# Altium integrated library Capacitor - Aluminium TH.IntLib: 4591 symbols (part 28 of 68)
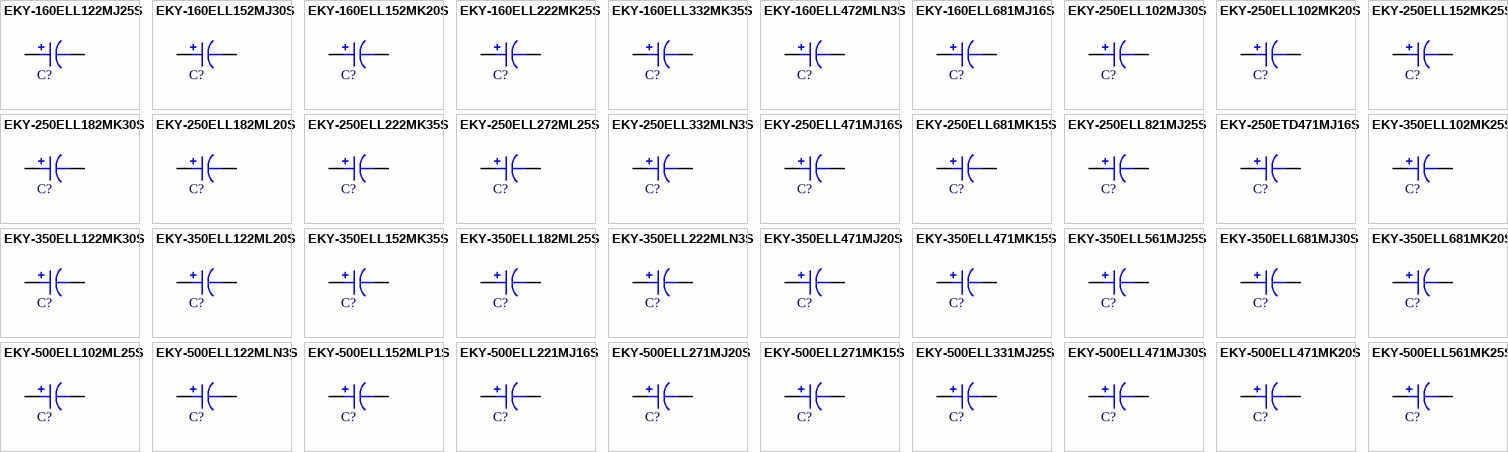
[diagram p141: symbols EKY-160ELL122MJ25S to EKY-500ELL561MK25S]

## EKY-350ELL471MJ20S
designator C?, comment 470uF  (value not drawn)
CAP ALUM 470UF 20% 35V RADIAL; Part Number: EKY-350ELL471MJ20S; Manufacturer: United Chemi-Con; TemperatureRange: -40C ~ 105C; Type: Polar; Ripple Current: 700mA @ 120Hz; Impedance: 46 mOhm; Value: 470uF; PartId: 25516; Supplier 1: Digi-Key; Supplier Part Number 1: 565-1576-ND; ComponentLink1Description: Datasheet; ComponentLink1URL: http://www.chemi-con.co.jp/cgi-bin/CAT_DB/SEARCH/cat_db_al.cgi?e=e&j=p&pdfname=ky; ComponentLink2Description: Digi-Key Listing; ComponentLink2URL: https://www.digikey.com/product-detail/en/united-chemi-con/EKY-350ELL471MJ20S/565-1576-ND/756092; Tolerance: 20%; Voltage: 35V; Price: 0.58; Device Package: Radial, Can, 10mm
footprint CAP AL TH D10 L5 H22
pins: 1, 2

## EKY-350ELL471MK15S
designator C?, comment 470uF  (value not drawn)
CAP ALUM 470UF 20% 35V RADIAL; Part Number: EKY-350ELL471MK15S; Manufacturer: United Chemi-Con; TemperatureRange: -40C ~ 105C; Type: Polar; Ripple Current: 725mA @ 120Hz; Impedance: 49 mOhm; Value: 470uF; PartId: 22715; Supplier 1: Digi-Key; Supplier Part Number 1: 565-1577-ND; ComponentLink1Description: Datasheet; ComponentLink1URL: http://www.chemi-con.co.jp/cgi-bin/CAT_DB/SEARCH/cat_db_al.cgi?e=e&j=p&pdfname=ky; ComponentLink2Description: Digi-Key Listing; ComponentLink2URL: https://www.digikey.com/product-detail/en/united-chemi-con/EKY-350ELL471MK15S/565-1577-ND/756093; Tolerance: 20%; Voltage: 35V; Price: 0; Device Package: Radial, Can, 12.5mm
footprint CAP AL TH D12.5 L5 H15
pins: 1, 2

## EKY-350ELL561MJ25S
designator C?, comment 560uF  (value not drawn)
CAP ALUM 560UF 20% 35V RADIAL; Part Number: EKY-350ELL561MJ25S; Manufacturer: United Chemi-Con; TemperatureRange: -40C ~ 105C; Type: Polar; Ripple Current: 825mA @ 120Hz; Impedance: 42 mOhm; Value: 560uF; PartId: 26080; Supplier 1: Digi-Key; Supplier Part Number 1: 565-1578-ND; ComponentLink1Description: Datasheet; ComponentLink1URL: http://www.chemi-con.co.jp/cgi-bin/CAT_DB/SEARCH/cat_db_al.cgi?e=e&j=p&pdfname=ky; ComponentLink2Description: Digi-Key Listing; ComponentLink2URL: https://www.digikey.com/product-detail/en/united-chemi-con/EKY-350ELL561MJ25S/565-1578-ND/756094; Tolerance: 20%; Voltage: 35V; Price: 0.71; Device Package: Radial, Can, 10mm
footprint CAP AL TH D10 L5 H30
pins: 1, 2

## EKY-350ELL681MJ30S
designator C?, comment 680uF  (value not drawn)
CAP ALUM 680UF 20% 35V RADIAL; Part Number: EKY-350ELL681MJ30S; Manufacturer: United Chemi-Con; TemperatureRange: -40C ~ 105C; Type: Polar; Ripple Current: 1.146A @ 120Hz; Impedance: 31 mOhm; Value: 680uF; PartId: 26049; Supplier 1: Digi-Key; Supplier Part Number 1: 565-1579-ND; ComponentLink1Description: Datasheet; ComponentLink1URL: http://www.chemi-con.co.jp/cgi-bin/CAT_DB/SEARCH/cat_db_al.cgi?e=e&j=p&pdfname=ky; ComponentLink2Description: Digi-Key Listing; ComponentLink2URL: https://www.digikey.com/product-detail/en/united-chemi-con/EKY-350ELL681MJ30S/565-1579-ND/756095; Tolerance: 20%; Voltage: 35V; Price: 0.63; Device Package: Radial, Can, 10mm
footprint CAP AL TH D10 L5 H30
pins: 1, 2

## EKY-350ELL681MK20S
designator C?, comment 680uF  (value not drawn)
CAP ALUM 680UF 20% 35V RADIAL; Part Number: EKY-350ELL681MK20S; Manufacturer: United Chemi-Con; TemperatureRange: -40C ~ 105C; Type: Polar; Ripple Current: 1.14A @ 120Hz; Impedance: 35 mOhm; Value: 680uF; PartId: 22901; Supplier 1: Digi-Key; Supplier Part Number 1: 565-1580-ND; ComponentLink1Description: Datasheet; ComponentLink1URL: http://www.chemi-con.co.jp/cgi-bin/CAT_DB/SEARCH/cat_db_al.cgi?e=e&j=p&pdfname=ky; ComponentLink2Description: Digi-Key Listing; ComponentLink2URL: https://www.digikey.com/product-detail/en/united-chemi-con/EKY-350ELL681MK20S/565-1580-ND/756096; Tolerance: 20%; Voltage: 35V; Price: 0; Device Package: Radial, Can, 12.5mm
footprint CAP AL TH D12.5 L5 H20
pins: 1, 2

## EKY-500ELL102ML25S
designator C?, comment 1000uF  (value not drawn)
CAP ALUM 1000UF 20% 50V RADIAL; Part Number: EKY-500ELL102ML25S; Manufacturer: United Chemi-Con; TemperatureRange: -40C ~ 105C; Type: Polar; Ripple Current: 1.533A @ 120Hz; Impedance: 25 mOhm; Value: 1000uF; PartId: 26580; Supplier 1: Digi-Key; Supplier Part Number 1: 565-1617-ND; ComponentLink1Description: Datasheet; ComponentLink1URL: http://www.chemi-con.co.jp/cgi-bin/CAT_DB/SEARCH/cat_db_al.cgi?e=e&j=p&pdfname=ky; ComponentLink2Description: Digi-Key Listing; ComponentLink2URL: https://www.digikey.com/product-detail/en/united-chemi-con/EKY-500ELL102ML25S/565-1617-ND/756133; Tolerance: 20%; Voltage: 50V; Price: 1.24; Device Package: Radial, Can, 16mm
footprint CAP AL TH D16 L7.5 H26.5
pins: 1, 2

## EKY-500ELL122MLN3S
designator C?, comment 1200uF  (value not drawn)
CAP ALUM 1200UF 20% 50V RADIAL; Part Number: EKY-500ELL122MLN3S; Manufacturer: United Chemi-Con; TemperatureRange: -40C ~ 105C; Type: Polar; Ripple Current: 1.806A @ 120Hz; Impedance: 22 mOhm; Value: 1200uF; PartId: 27022; Supplier 1: Digi-Key; Supplier Part Number 1: 565-1619-ND; ComponentLink1Description: Datasheet; ComponentLink1URL: http://www.chemi-con.co.jp/cgi-bin/CAT_DB/SEARCH/cat_db_al.cgi?e=e&j=p&pdfname=ky; ComponentLink2Description: Digi-Key Listing; ComponentLink2URL: https://www.digikey.com/product-detail/en/united-chemi-con/EKY-500ELL122MLN3S/565-1619-ND/756135; Tolerance: 20%; Voltage: 50V; Price: 1.47; Device Package: Radial, Can, 16mm
footprint CAP AL TH D16 L7.5 H33.5
pins: 1, 2

## EKY-500ELL152MLP1S
designator C?, comment 1500uF  (value not drawn)
CAP ALUM 1500UF 20% 50V RADIAL; Part Number: EKY-500ELL152MLP1S; Manufacturer: United Chemi-Con; TemperatureRange: -40C ~ 105C; Type: Polar; Ripple Current: 1.89A @ 120Hz; Impedance: 19 mOhm; Value: 1500uF; PartId: 27337; Supplier 1: Digi-Key; Supplier Part Number 1: 565-1621-ND; ComponentLink1Description: Datasheet; ComponentLink1URL: http://www.chemi-con.co.jp/cgi-bin/CAT_DB/SEARCH/cat_db_al.cgi?e=e&j=p&pdfname=ky; ComponentLink2Description: Digi-Key Listing; ComponentLink2URL: https://www.digikey.com/product-detail/en/united-chemi-con/EKY-500ELL152MLP1S/565-1621-ND/756137; Tolerance: 20%; Voltage: 50V; Price: 1.66; Device Package: Radial, Can, 16mm
footprint CAP AL TH D16 L7.5 H37
pins: 1, 2

## EKY-500ELL221MJ16S
designator C?, comment 220uF  (value not drawn)
CAP ALUM 220UF 20% 50V RADIAL; Part Number: EKY-500ELL221MJ16S; Manufacturer: United Chemi-Con; TemperatureRange: -40C ~ 105C; Type: Polar; Ripple Current: 525mA @ 120Hz; Impedance: 84 mOhm; Value: 220uF; PartId: 25215; Supplier 1: Digi-Key; Supplier Part Number 1: 565-1605-ND; ComponentLink1Description: Datasheet; ComponentLink1URL: http://www.chemi-con.co.jp/cgi-bin/CAT_DB/SEARCH/cat_db_al.cgi?e=e&j=p&pdfname=ky; ComponentLink2Description: Digi-Key Listing; ComponentLink2URL: https://www.digikey.com/product-detail/en/united-chemi-con/EKY-500ELL221MJ16S/565-1605-ND/756121; Tolerance: 20%; Voltage: 50V; Price: 0.53; Device Package: Radial, Can, 10mm
footprint CAP AL TH D10 L5 H17.5
pins: 1, 2

## EKY-500ELL271MJ20S
designator C?, comment 270uF  (value not drawn)
CAP ALUM 270UF 20% 50V RADIAL; Part Number: EKY-500ELL271MJ20S; Manufacturer: United Chemi-Con; TemperatureRange: -40C ~ 105C; Type: Polar; Ripple Current: 610mA @ 120Hz; Impedance: 60 mOhm; Value: 270uF; PartId: 25522; Supplier 1: Digi-Key; Supplier Part Number 1: 565-1606-ND; ComponentLink1Description: Datasheet; ComponentLink1URL: http://www.chemi-con.co.jp/cgi-bin/CAT_DB/SEARCH/cat_db_al.cgi?e=e&j=p&pdfname=ky; ComponentLink2Description: Digi-Key Listing; ComponentLink2URL: https://www.digikey.com/product-detail/en/united-chemi-con/EKY-500ELL271MJ20S/565-1606-ND/756122; Tolerance: 20%; Voltage: 50V; Price: 0.59; Device Package: Radial, Can, 10mm
footprint CAP AL TH D10 L5 H22
pins: 1, 2

## EKY-500ELL271MK15S
designator C?, comment 270uF  (value not drawn)
CAP ALUM 270UF 20% 50V RADIAL; Part Number: EKY-500ELL271MK15S; Manufacturer: United Chemi-Con; TemperatureRange: -40C ~ 105C; Type: Polar; Ripple Current: 630mA @ 120Hz; Impedance: 61 mOhm; Value: 270uF; PartId: 22716; Supplier 1: Digi-Key; Supplier Part Number 1: 565-1607-ND; ComponentLink1Description: Datasheet; ComponentLink1URL: http://www.chemi-con.co.jp/cgi-bin/CAT_DB/SEARCH/cat_db_al.cgi?e=e&j=p&pdfname=ky; ComponentLink2Description: Digi-Key Listing; ComponentLink2URL: https://www.digikey.com/product-detail/en/united-chemi-con/EKY-500ELL271MK15S/565-1607-ND/756123; Tolerance: 20%; Voltage: 50V; Price: 0; Device Package: Radial, Can, 12.5mm
footprint CAP AL TH D12.5 L5 H15
pins: 1, 2

## EKY-500ELL331MJ25S
designator C?, comment 330uF  (value not drawn)
CAP ALUM 330UF 20% 50V RADIAL; Part Number: EKY-500ELL331MJ25S; Manufacturer: United Chemi-Con; TemperatureRange: -40C ~ 105C; Type: Polar; Ripple Current: 720mA @ 120Hz; Impedance: 55 mOhm; Value: 330uF; PartId: 26078; Supplier 1: Digi-Key; Supplier Part Number 1: 565-1608-ND; ComponentLink1Description: Datasheet; ComponentLink1URL: http://www.chemi-con.co.jp/cgi-bin/CAT_DB/SEARCH/cat_db_al.cgi?e=e&j=p&pdfname=ky; ComponentLink2Description: Digi-Key Listing; ComponentLink2URL: https://www.digikey.com/product-detail/en/united-chemi-con/EKY-500ELL331MJ25S/565-1608-ND/756124; Tolerance: 20%; Voltage: 50V; Price: 0.71; Device Package: Radial, Can, 10mm
footprint CAP AL TH D10 L5 H30
pins: 1, 2

## EKY-500ELL471MJ30S
designator C?, comment 470uF  (value not drawn)
CAP ALUM 470UF 20% 50V RADIAL; Part Number: EKY-500ELL471MJ30S; Manufacturer: United Chemi-Con; TemperatureRange: -40C ~ 105C; Type: Polar; Ripple Current: 845mA @ 120Hz; Impedance: 43 mOhm; Value: 470uF; PartId: 26058; Supplier 1: Digi-Key; Supplier Part Number 1: 565-1609-ND; ComponentLink1Description: Datasheet; ComponentLink1URL: http://www.chemi-con.co.jp/cgi-bin/CAT_DB/SEARCH/cat_db_al.cgi?e=e&j=p&pdfname=ky; ComponentLink2Description: Digi-Key Listing; ComponentLink2URL: https://www.digikey.com/product-detail/en/united-chemi-con/EKY-500ELL471MJ30S/565-1609-ND/756125; Tolerance: 20%; Voltage: 50V; Price: 0.67; Device Package: Radial, Can, 10mm
footprint CAP AL TH D10 L5 H30
pins: 1, 2

## EKY-500ELL471MK20S
designator C?, comment 470uF  (value not drawn)
CAP ALUM 470UF 20% 50V RADIAL; Part Number: EKY-500ELL471MK20S; Manufacturer: United Chemi-Con; TemperatureRange: -40C ~ 105C; Type: Polar; Ripple Current: 830mA @ 120Hz; Impedance: 45 mOhm; Value: 470uF; PartId: 22903; Supplier 1: Digi-Key; Supplier Part Number 1: 565-1610-ND; ComponentLink1Description: Datasheet; ComponentLink1URL: http://www.chemi-con.co.jp/cgi-bin/CAT_DB/SEARCH/cat_db_al.cgi?e=e&j=p&pdfname=ky; ComponentLink2Description: Digi-Key Listing; ComponentLink2URL: https://www.digikey.com/product-detail/en/united-chemi-con/EKY-500ELL471MK20S/565-1610-ND/756126; Tolerance: 20%; Voltage: 50V; Price: 0; Device Package: Radial, Can, 12.5mm
footprint CAP AL TH D12.5 L5 H20
pins: 1, 2

## EKY-500ELL561MK25S
designator C?, comment 560uF  (value not drawn)
CAP ALUM 560UF 20% 50V RADIAL; Part Number: EKY-500ELL561MK25S; Manufacturer: United Chemi-Con; TemperatureRange: -40C ~ 105C; Type: Polar; Ripple Current: 975mA @ 120Hz; Impedance: 34 mOhm; Value: 560uF; PartId: 23561; Supplier 1: Digi-Key; Supplier Part Number 1: 565-1611-ND; ComponentLink1Description: Datasheet; ComponentLink1URL: http://www.chemi-con.co.jp/cgi-bin/CAT_DB/SEARCH/cat_db_al.cgi?e=e&j=p&pdfname=ky; ComponentLink2Description: Digi-Key Listing; ComponentLink2URL: https://www.digikey.com/product-detail/en/united-chemi-con/EKY-500ELL561MK25S/565-1611-ND/756127; Tolerance: 20%; Voltage: 50V; Price: 0.88; Device Package: Radial, Can, 12.5mm
footprint CAP AL TH D12.5 L5 H25
pins: 1, 2

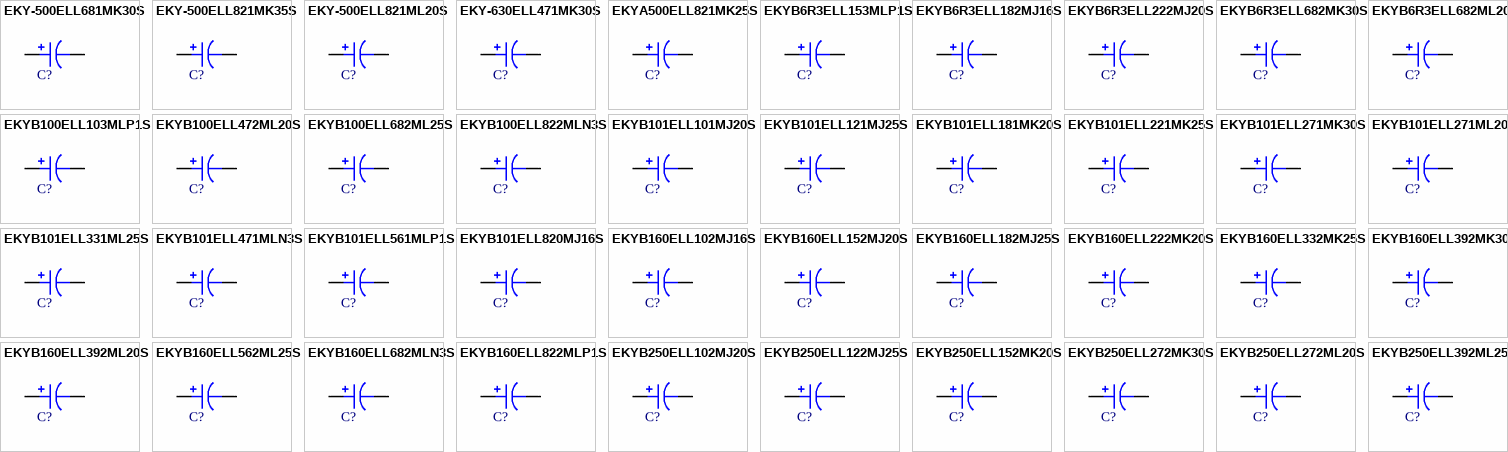
[diagram p45: symbols EKY-500ELL681MK30S to EKYB250ELL392ML25S]

## EKY-500ELL681MK30S
designator C?, comment 680uF  (value not drawn)
CAP ALUM 680UF 20% 50V RADIAL; Part Number: EKY-500ELL681MK30S; Manufacturer: United Chemi-Con; TemperatureRange: -40C ~ 105C; Type: Polar; Ripple Current: 1.386A @ 120Hz; Impedance: 30 mOhm; Value: 680uF; PartId: 24224; Supplier 1: Digi-Key; Supplier Part Number 1: 565-1613-ND; ComponentLink1Description: Datasheet; ComponentLink1URL: http://www.chemi-con.co.jp/cgi-bin/CAT_DB/SEARCH/cat_db_al.cgi?e=e&j=p&pdfname=ky; ComponentLink2Description: Digi-Key Listing; ComponentLink2URL: https://www.digikey.com/product-detail/en/united-chemi-con/EKY-500ELL681MK30S/565-1613-ND/756129; Tolerance: 20%; Voltage: 50V; Price: 0.97; Device Package: Radial, Can, 12.5mm
footprint CAP AL TH D12.5 L5 H35.5
pins: 1, 2

## EKY-500ELL821MK35S
designator C?, comment 820uF  (value not drawn)
CAP ALUM 820UF 20% 50V RADIAL; Part Number: EKY-500ELL821MK35S; Manufacturer: United Chemi-Con; TemperatureRange: -40C ~ 105C; Type: Polar; Ripple Current: 1.506A @ 120Hz; Impedance: 25 mOhm; Value: 820uF; PartId: 24227; Supplier 1: Digi-Key; Supplier Part Number 1: 565-1614-ND; ComponentLink1Description: Datasheet; ComponentLink1URL: http://www.chemi-con.co.jp/cgi-bin/CAT_DB/SEARCH/cat_db_al.cgi?e=e&j=p&pdfname=ky; ComponentLink2Description: Digi-Key Listing; ComponentLink2URL: https://www.digikey.com/product-detail/en/united-chemi-con/EKY-500ELL821MK35S/565-1614-ND/756130; Tolerance: 20%; Voltage: 50V; Price: 0.97; Device Package: Radial, Can, 12.5mm
footprint CAP AL TH D12.5 L5 H35.5
pins: 1, 2

## EKY-500ELL821ML20S
designator C?, comment 820uF  (value not drawn)
CAP ALUM 820UF 20% 50V RADIAL; Part Number: EKY-500ELL821ML20S; Manufacturer: United Chemi-Con; TemperatureRange: -40C ~ 105C; Type: Polar; Ripple Current: 1.326A @ 120Hz; Impedance: 34 mOhm; Value: 820uF; PartId: 26298; Supplier 1: Digi-Key; Supplier Part Number 1: 565-1615-ND; ComponentLink1Description: Datasheet; ComponentLink1URL: http://www.chemi-con.co.jp/cgi-bin/CAT_DB/SEARCH/cat_db_al.cgi?e=e&j=p&pdfname=ky; ComponentLink2Description: Digi-Key Listing; ComponentLink2URL: https://www.digikey.com/product-detail/en/united-chemi-con/EKY-500ELL821ML20S/565-1615-ND/756131; Tolerance: 20%; Voltage: 50V; Price: 1.12; Device Package: Radial, Can, 16mm
footprint CAP AL TH D16 L7.5 H20
pins: 1, 2

## EKY-630ELL471MK30S
designator C?, comment 470uF  (value not drawn)
CAP ALUM 470UF 20% 63V RADIAL; Part Number: EKY-630ELL471MK30S; Manufacturer: United Chemi-Con; TemperatureRange: -40C ~ 105C; Type: Polar; Ripple Current: 1.15A @ 120Hz; Impedance: 28 mOhm; Value: 470uF; PartId: 24229; Supplier 1: Digi-Key; Supplier Part Number 1: 565-4233-ND; ComponentLink1Description: Datasheet; ComponentLink1URL: http://www.chemi-con.co.jp/cgi-bin/CAT_DB/SEARCH/cat_db_al.cgi?e=e&j=p&pdfname=ky; ComponentLink2Description: Digi-Key Listing; ComponentLink2URL: https://www.digikey.com/product-detail/en/united-chemi-con/EKY-630ELL471MK30S/565-4233-ND/4001389; Tolerance: 20%; Voltage: 63V; Price: 0.97; Device Package: Radial, Can, 12.5mm
footprint CAP AL TH D12.5 L5 H35.5
pins: 1, 2

## EKYA500ELL821MK25S
designator C?, comment 820uF  (value not drawn)
CAP ALUM 820UF 20% 50V RADIAL; Part Number: EKYA500ELL821MK25S; Manufacturer: United Chemi-Con; TemperatureRange: -40C ~ 105C; Type: Polar; Ripple Current: 1.17A @ 120Hz; Impedance: 34 mOhm; Value: 820uF; PartId: 23730; Supplier 1: Digi-Key; Supplier Part Number 1: 565-3767-ND; ComponentLink1Description: Datasheet; ComponentLink1URL: http://www.chemi-con.co.jp/cgi-bin/CAT_DB/SEARCH/cat_db_al.cgi?e=e&j=p&pdfname=kya; ComponentLink2Description: Digi-Key Listing; ComponentLink2URL: https://www.digikey.com/product-detail/en/united-chemi-con/EKYA500ELL821MK25S/565-3767-ND/4726036; Tolerance: 20%; Voltage: 50V; Price: 1.42; Device Package: Radial, Can, 12.5mm
footprint CAP AL TH D12.5 L5 H26.5
pins: 1, 2

## EKYB6R3ELL153MLP1S
designator C?, comment 15000uF  (value not drawn)
CAP ALUM 15000UF 20% 6.3V RADIAL; Part Number: EKYB6R3ELL153MLP1S; Manufacturer: United Chemi-Con; TemperatureRange: -40C ~ 105C; Type: Polar; Ripple Current: 3.468A @ 120Hz; Impedance: 14 mOhm; Value: 15000uF; PartId: 27381; Supplier 1: Digi-Key; Supplier Part Number 1: 565-3846-ND; ComponentLink1Description: Datasheet; ComponentLink1URL: http://www.chemi-con.co.jp/cgi-bin/CAT_DB/SEARCH/cat_db_al.cgi?e=e&j=p&pdfname=kyb; ComponentLink2Description: Digi-Key Listing; ComponentLink2URL: https://www.digikey.com/product-detail/en/united-chemi-con/EKYB6R3ELL153MLP1S/565-3846-ND/4843656; Tolerance: 20%; Voltage: 6.3V; Price: 1.83; Device Package: Radial, Can, 16mm
footprint CAP AL TH D16 L7.5 H37
pins: 1, 2

## EKYB6R3ELL182MJ16S
designator C?, comment 1800uF  (value not drawn)
CAP ALUM 1800UF 20% 6.3V RADIAL; Part Number: EKYB6R3ELL182MJ16S; Manufacturer: United Chemi-Con; TemperatureRange: -40C ~ 105C; Type: Polar; Ripple Current: 840mA @ 120Hz; Impedance: 49 mOhm; Value: 1800uF; PartId: 25297; Supplier 1: Digi-Key; Supplier Part Number 1: 565-3837-ND; ComponentLink1Description: Datasheet; ComponentLink1URL: http://www.chemi-con.co.jp/cgi-bin/CAT_DB/SEARCH/cat_db_al.cgi?e=e&j=p&pdfname=kyb; ComponentLink2Description: Digi-Key Listing; ComponentLink2URL: https://www.digikey.com/product-detail/en/united-chemi-con/EKYB6R3ELL182MJ16S/565-3837-ND/4843647; Tolerance: 20%; Voltage: 6.3V; Price: 0.63; Device Package: Radial, Can, 10mm
footprint CAP AL TH D10 L5 H17.5
pins: 1, 2

## EKYB6R3ELL222MJ20S
designator C?, comment 2200uF  (value not drawn)
CAP ALUM 2200UF 20% 6.3V RADIAL; Part Number: EKYB6R3ELL222MJ20S; Manufacturer: United Chemi-Con; TemperatureRange: -40C ~ 105C; Type: Polar; Ripple Current: 1.2375A @ 120Hz; Impedance: 37 mOhm; Value: 2200uF; PartId: 25615; Supplier 1: Digi-Key; Supplier Part Number 1: 565-3838-ND; ComponentLink1Description: Datasheet; ComponentLink1URL: http://www.chemi-con.co.jp/cgi-bin/CAT_DB/SEARCH/cat_db_al.cgi?e=e&j=p&pdfname=kyb; ComponentLink2Description: Digi-Key Listing; ComponentLink2URL: https://www.digikey.com/product-detail/en/united-chemi-con/EKYB6R3ELL222MJ20S/565-3838-ND/4843648; Tolerance: 20%; Voltage: 6.3V; Price: 0.7; Device Package: Radial, Can, 10mm
footprint CAP AL TH D10 L5 H22
pins: 1, 2

## EKYB6R3ELL682MK30S
designator C?, comment 6800uF  (value not drawn)
CAP ALUM 6800UF 20% 6.3V RADIAL; Part Number: EKYB6R3ELL682MK30S; Manufacturer: United Chemi-Con; TemperatureRange: -40C ~ 105C; Type: Polar; Ripple Current: 2.431A @ 120Hz; Impedance: 21 mOhm; Value: 6800uF; PartId: 24254; Supplier 1: Digi-Key; Supplier Part Number 1: 565-3843-ND; ComponentLink1Description: Datasheet; ComponentLink1URL: http://www.chemi-con.co.jp/cgi-bin/CAT_DB/SEARCH/cat_db_al.cgi?e=e&j=p&pdfname=kyb; ComponentLink2Description: Digi-Key Listing; ComponentLink2URL: https://www.digikey.com/product-detail/en/united-chemi-con/EKYB6R3ELL682MK30S/565-3843-ND/4843653; Tolerance: 20%; Voltage: 6.3V; Price: 1.03; Device Package: Radial, Can, 12.5mm
footprint CAP AL TH D12.5 L5 H35.5
pins: 1, 2

## EKYB6R3ELL682ML20S
designator C?, comment 6800uF  (value not drawn)
CAP ALUM 6800UF 20% 6.3V RADIAL; Part Number: EKYB6R3ELL682ML20S; Manufacturer: United Chemi-Con; TemperatureRange: -40C ~ 105C; Type: Polar; Ripple Current: 2.2185A @ 120Hz; Impedance: 25 mOhm; Value: 6800uF; PartId: 26420; Supplier 1: Digi-Key; Supplier Part Number 1: 565-3844-ND; ComponentLink1Description: Datasheet; ComponentLink1URL: http://www.chemi-con.co.jp/cgi-bin/CAT_DB/SEARCH/cat_db_al.cgi?e=e&j=p&pdfname=kyb; ComponentLink2Description: Digi-Key Listing; ComponentLink2URL: https://www.digikey.com/product-detail/en/united-chemi-con/EKYB6R3ELL682ML20S/565-3844-ND/4843654; Tolerance: 20%; Voltage: 6.3V; Price: 1.24; Device Package: Radial, Can, 16mm
footprint CAP AL TH D16 L7.5 H22
pins: 1, 2

## EKYB100ELL103MLP1S
designator C?, comment 10000uF  (value not drawn)
CAP ALUM 10000UF 20% 10V RADIAL; Part Number: EKYB100ELL103MLP1S; Manufacturer: United Chemi-Con; TemperatureRange: -40C ~ 105C; Type: Polar; Ripple Current: 3.468A @ 120Hz; Impedance: 14 mOhm; Value: 10000uF; PartId: 27368; Supplier 1: Digi-Key; Supplier Part Number 1: 565-3855-ND; ComponentLink1Description: Datasheet; ComponentLink1URL: http://www.chemi-con.co.jp/cgi-bin/CAT_DB/SEARCH/cat_db_al.cgi?e=e&j=p&pdfname=kyb; ComponentLink2Description: Digi-Key Listing; ComponentLink2URL: https://www.digikey.com/product-detail/en/united-chemi-con/EKYB100ELL103MLP1S/565-3855-ND/4843665; Tolerance: 20%; Voltage: 10V; Price: 1.79; Device Package: Radial, Can, 16mm
footprint CAP AL TH D16 L7.5 H37
pins: 1, 2

## EKYB100ELL472ML20S
designator C?, comment 4700uF  (value not drawn)
CAP ALUM 4700UF 20% 10V RADIAL; Part Number: EKYB100ELL472ML20S; Manufacturer: United Chemi-Con; TemperatureRange: -40C ~ 105C; Type: Polar; Ripple Current: 2.2185A @ 120Hz; Impedance: 25 mOhm; Value: 4700uF; PartId: 26424; Supplier 1: Digi-Key; Supplier Part Number 1: 565-3851-ND; ComponentLink1Description: Datasheet; ComponentLink1URL: http://www.chemi-con.co.jp/cgi-bin/CAT_DB/SEARCH/cat_db_al.cgi?e=e&j=p&pdfname=kyb; ComponentLink2Description: Digi-Key Listing; ComponentLink2URL: https://www.digikey.com/product-detail/en/united-chemi-con/EKYB100ELL472ML20S/565-3851-ND/4843661; Tolerance: 20%; Voltage: 10V; Price: 1.25; Device Package: Radial, Can, 16mm
footprint CAP AL TH D16 L7.5 H22
pins: 1, 2

## EKYB100ELL682ML25S
designator C?, comment 6800uF  (value not drawn)
CAP ALUM 6800UF 20% 10V RADIAL; Part Number: EKYB100ELL682ML25S; Manufacturer: United Chemi-Con; TemperatureRange: -40C ~ 105C; Type: Polar; Ripple Current: 2.669A @ 100kHz; Impedance: 20 mOhm; Value: 6800uF; PartId: 26643; Supplier 1: Digi-Key; Supplier Part Number 1: 565-3852-ND; ComponentLink1Description: Datasheet; ComponentLink1URL: http://www.chemi-con.co.jp/cgi-bin/CAT_DB/SEARCH/cat_db_al.cgi?e=e&j=p&pdfname=kyb; ComponentLink2Description: Digi-Key Listing; ComponentLink2URL: https://www.digikey.com/product-detail/en/united-chemi-con/EKYB100ELL682ML25S/565-3852-ND/4843662; Tolerance: 20%; Voltage: 10V; Price: 1.52; Device Package: Radial, Can, 16mm
footprint CAP AL TH D16 L7.5 H26.5
pins: 1, 2

## EKYB100ELL822MLN3S
designator C?, comment 8200uF  (value not drawn)
CAP ALUM 8200UF 20% 10V RADIAL; Part Number: EKYB100ELL822MLN3S; Manufacturer: United Chemi-Con; TemperatureRange: -40C ~ 105C; Type: Polar; Ripple Current: 3.0685A @ 120Hz; Impedance: 16 mOhm; Value: 8200uF; PartId: 27152; Supplier 1: Digi-Key; Supplier Part Number 1: 565-3853-ND; ComponentLink1Description: Datasheet; ComponentLink1URL: http://www.chemi-con.co.jp/cgi-bin/CAT_DB/SEARCH/cat_db_al.cgi?e=e&j=p&pdfname=kyb; ComponentLink2Description: Digi-Key Listing; ComponentLink2URL: https://www.digikey.com/product-detail/en/united-chemi-con/EKYB100ELL822MLN3S/565-3853-ND/4843663; Tolerance: 20%; Voltage: 10V; Price: 1.85; Device Package: Radial, Can, 16mm
footprint CAP AL TH D16 L7.5 H33.5
pins: 1, 2

## EKYB101ELL101MJ20S
designator C?, comment 100uF  (value not drawn)
CAP ALUM 100UF 20% 100V RADIAL; Part Number: EKYB101ELL101MJ20S; Manufacturer: United Chemi-Con; TemperatureRange: -40C ~ 105C; Type: Polar; Ripple Current: 416mA @ 120Hz; Impedance: 75 mOhm; Value: 100uF; PartId: 25588; Supplier 1: Digi-Key; Supplier Part Number 1: 565-4013-ND; ComponentLink1Description: Datasheet; ComponentLink1URL: http://www.chemi-con.co.jp/cgi-bin/CAT_DB/SEARCH/cat_db_al.cgi?e=e&j=p&pdfname=kyb; ComponentLink2Description: Digi-Key Listing; ComponentLink2URL: https://www.digikey.com/product-detail/en/united-chemi-con/EKYB101ELL101MJ20S/565-4013-ND/4843823; Tolerance: 20%; Voltage: 100V; Price: 0.68; Device Package: Radial, Can, 10mm
footprint CAP AL TH D10 L5 H22
pins: 1, 2

## EKYB101ELL121MJ25S
designator C?, comment 120uF  (value not drawn)
CAP ALUM 120UF 20% 100V RADIAL; Part Number: EKYB101ELL121MJ25S; Manufacturer: United Chemi-Con; TemperatureRange: -40C ~ 105C; Type: Polar; Ripple Current: 468mA @ 120Hz; Impedance: 60 mOhm; Value: 120uF; PartId: 26072; Supplier 1: Digi-Key; Supplier Part Number 1: 565-4014-ND; ComponentLink1Description: Datasheet; ComponentLink1URL: http://www.chemi-con.co.jp/cgi-bin/CAT_DB/SEARCH/cat_db_al.cgi?e=e&j=p&pdfname=kyb; ComponentLink2Description: Digi-Key Listing; ComponentLink2URL: https://www.digikey.com/product-detail/en/united-chemi-con/EKYB101ELL121MJ25S/565-4014-ND/4843824; Tolerance: 20%; Voltage: 100V; Price: 0.7; Device Package: Radial, Can, 10mm
footprint CAP AL TH D10 L5 H30
pins: 1, 2

## EKYB101ELL181MK20S
designator C?, comment 180uF  (value not drawn)
CAP ALUM 180UF 20% 100V RADIAL; Part Number: EKYB101ELL181MK20S; Manufacturer: United Chemi-Con; TemperatureRange: -40C ~ 105C; Type: Polar; Ripple Current: 572mA @ 120Hz; Impedance: 48 mOhm; Value: 180uF; PartId: 22998; Supplier 1: Digi-Key; Supplier Part Number 1: 565-4016-ND; ComponentLink1Description: Datasheet; ComponentLink1URL: http://www.chemi-con.co.jp/cgi-bin/CAT_DB/SEARCH/cat_db_al.cgi?e=e&j=p&pdfname=kyb; ComponentLink2Description: Digi-Key Listing; ComponentLink2URL: https://www.digikey.com/product-detail/en/united-chemi-con/EKYB101ELL181MK20S/565-4016-ND/4843826; Tolerance: 20%; Voltage: 100V; Price: 0; Device Package: Radial, Can, 12.5mm
footprint CAP AL TH D12.5 L5 H21.5
pins: 1, 2

## EKYB101ELL221MK25S
designator C?, comment 220uF  (value not drawn)
CAP ALUM 220UF 20% 100V RADIAL; Part Number: EKYB101ELL221MK25S; Manufacturer: United Chemi-Con; TemperatureRange: -40C ~ 105C; Type: Polar; Ripple Current: 810mA @ 120Hz; Impedance: 39 mOhm; Value: 220uF; PartId: 24277; Supplier 1: Digi-Key; Supplier Part Number 1: 565-4017-ND; ComponentLink1Description: Datasheet; ComponentLink1URL: http://www.chemi-con.co.jp/cgi-bin/CAT_DB/SEARCH/cat_db_al.cgi?e=e&j=p&pdfname=kyb; ComponentLink2Description: Digi-Key Listing; ComponentLink2URL: https://www.digikey.com/product-detail/en/united-chemi-con/EKYB101ELL221MK25S/565-4017-ND/4843827; Tolerance: 20%; Voltage: 100V; Price: 1.08; Device Package: Radial, Can, 12.5mm
footprint CAP AL TH D12.5 L5 H35.5
pins: 1, 2

## EKYB101ELL271MK30S
designator C?, comment 270uF  (value not drawn)
CAP ALUM 270UF 20% 100V RADIAL; Part Number: EKYB101ELL271MK30S; Manufacturer: United Chemi-Con; TemperatureRange: -40C ~ 105C; Type: Polar; Ripple Current: 975mA @ 120Hz; Impedance: 33 mOhm; Value: 270uF; PartId: 24290; Supplier 1: Digi-Key; Supplier Part Number 1: 565-4018-ND; ComponentLink1Description: Datasheet; ComponentLink1URL: http://www.chemi-con.co.jp/cgi-bin/CAT_DB/SEARCH/cat_db_al.cgi?e=e&j=p&pdfname=kyb; ComponentLink2Description: Digi-Key Listing; ComponentLink2URL: https://www.digikey.com/product-detail/en/united-chemi-con/EKYB101ELL271MK30S/565-4018-ND/4843828; Tolerance: 20%; Voltage: 100V; Price: 1.12; Device Package: Radial, Can, 12.5mm
footprint CAP AL TH D12.5 L5 H35.5
pins: 1, 2

## EKYB101ELL271ML20S
designator C?, comment 270uF  (value not drawn)
CAP ALUM 270UF 20% 100V RADIAL; Part Number: EKYB101ELL271ML20S; Manufacturer: United Chemi-Con; TemperatureRange: -40C ~ 105C; Type: Polar; Ripple Current: 875mA @ 120Hz; Impedance: 36 mOhm; Value: 270uF; PartId: 26432; Supplier 1: Digi-Key; Supplier Part Number 1: 565-4019-ND; ComponentLink1Description: Datasheet; ComponentLink1URL: http://www.chemi-con.co.jp/cgi-bin/CAT_DB/SEARCH/cat_db_al.cgi?e=e&j=p&pdfname=kyb; ComponentLink2Description: Digi-Key Listing; ComponentLink2URL: https://www.digikey.com/product-detail/en/united-chemi-con/EKYB101ELL271ML20S/565-4019-ND/4843829; Tolerance: 20%; Voltage: 100V; Price: 1.32; Device Package: Radial, Can, 16mm
footprint CAP AL TH D16 L7.5 H22
pins: 1, 2

## EKYB101ELL331ML25S
designator C?, comment 330uF  (value not drawn)
CAP ALUM 330UF 20% 100V RADIAL; Part Number: EKYB101ELL331ML25S; Manufacturer: United Chemi-Con; TemperatureRange: -40C ~ 105C; Type: Polar; Ripple Current: 1.125A @ 120Hz; Impedance: 28 mOhm; Value: 330uF; PartId: 26649; Supplier 1: Digi-Key; Supplier Part Number 1: 565-4020-ND; ComponentLink1Description: Datasheet; ComponentLink1URL: http://www.chemi-con.co.jp/cgi-bin/CAT_DB/SEARCH/cat_db_al.cgi?e=e&j=p&pdfname=kyb; ComponentLink2Description: Digi-Key Listing; ComponentLink2URL: https://www.digikey.com/product-detail/en/united-chemi-con/EKYB101ELL331ML25S/565-4020-ND/4843830; Tolerance: 20%; Voltage: 100V; Price: 1.55; Device Package: Radial, Can, 16mm
footprint CAP AL TH D16 L7.5 H26.5
pins: 1, 2

## EKYB101ELL471MLN3S
designator C?, comment 470uF  (value not drawn)
CAP ALUM 470UF 20% 100V RADIAL; Part Number: EKYB101ELL471MLN3S; Manufacturer: United Chemi-Con; TemperatureRange: -40C ~ 105C; Type: Polar; Ripple Current: 1.2A @ 120Hz; Impedance: 22 mOhm; Value: 470uF; PartId: 27165; Supplier 1: Digi-Key; Supplier Part Number 1: 565-4024-ND; ComponentLink1Description: Datasheet; ComponentLink1URL: http://www.chemi-con.co.jp/cgi-bin/CAT_DB/SEARCH/cat_db_al.cgi?e=e&j=p&pdfname=kyb; ComponentLink2Description: Digi-Key Listing; ComponentLink2URL: https://www.digikey.com/product-detail/en/united-chemi-con/EKYB101ELL471MLN3S/565-4024-ND/4843834; Tolerance: 20%; Voltage: 100V; Price: 1.88; Device Package: Radial, Can, 16mm
footprint CAP AL TH D16 L7.5 H33.5
pins: 1, 2

## EKYB101ELL561MLP1S
designator C?, comment 560uF  (value not drawn)
CAP ALUM 560UF 20% 100V RADIAL; Part Number: EKYB101ELL561MLP1S; Manufacturer: United Chemi-Con; TemperatureRange: -40C ~ 105C; Type: Polar; Ripple Current: 1.3A @ 120Hz; Impedance: 20 mOhm; Value: 560uF; PartId: 27387; Supplier 1: Digi-Key; Supplier Part Number 1: 565-4025-ND; ComponentLink1Description: Datasheet; ComponentLink1URL: http://www.chemi-con.co.jp/cgi-bin/CAT_DB/SEARCH/cat_db_al.cgi?e=e&j=p&pdfname=kyb; ComponentLink2Description: Digi-Key Listing; ComponentLink2URL: https://www.digikey.com/product-detail/en/united-chemi-con/EKYB101ELL561MLP1S/565-4025-ND/4843835; Tolerance: 20%; Voltage: 100V; Price: 1.9; Device Package: Radial, Can, 16mm
footprint CAP AL TH D16 L7.5 H37
pins: 1, 2

## EKYB101ELL820MJ16S
designator C?, comment 82uF  (value not drawn)
CAP ALUM 82UF 20% 100V RADIAL; Part Number: EKYB101ELL820MJ16S; Manufacturer: United Chemi-Con; TemperatureRange: -40C ~ 105C; Type: Polar; Ripple Current: 312mA @ 120Hz; Impedance: 100 mOhm; Value: 82uF; PartId: 25295; Supplier 1: Digi-Key; Supplier Part Number 1: 565-4012-ND; ComponentLink1Description: Datasheet; ComponentLink1URL: http://www.chemi-con.co.jp/cgi-bin/CAT_DB/SEARCH/cat_db_al.cgi?e=e&j=p&pdfname=kyb; ComponentLink2Description: Digi-Key Listing; ComponentLink2URL: https://www.digikey.com/product-detail/en/united-chemi-con/EKYB101ELL820MJ16S/565-4012-ND/4843822; Tolerance: 20%; Voltage: 100V; Price: 0.63; Device Package: Radial, Can, 10mm
footprint CAP AL TH D10 L5 H17.5
pins: 1, 2

## EKYB160ELL102MJ16S
designator C?, comment 1000uF  (value not drawn)
CAP ALUM 1000UF 20% 16V RADIAL; Part Number: EKYB160ELL102MJ16S; Manufacturer: United Chemi-Con; TemperatureRange: -40C ~ 105C; Type: Polar; Ripple Current: 840mA @ 120Hz; Impedance: 49 mOhm; Value: 1000uF; PartId: 25302; Supplier 1: Digi-Key; Supplier Part Number 1: 565-3866-ND; ComponentLink1Description: Datasheet; ComponentLink1URL: http://www.chemi-con.co.jp/cgi-bin/CAT_DB/SEARCH/cat_db_al.cgi?e=e&j=p&pdfname=kyb; ComponentLink2Description: Digi-Key Listing; ComponentLink2URL: https://www.digikey.com/product-detail/en/united-chemi-con/EKYB160ELL102MJ16S/565-3866-ND/4843676; Tolerance: 20%; Voltage: 16V; Price: 0.64; Device Package: Radial, Can, 10mm
footprint CAP AL TH D10 L5 H17.5
pins: 1, 2

## EKYB160ELL152MJ20S
designator C?, comment 1500uF  (value not drawn)
CAP ALUM 1500UF 20% 16V RADIAL; Part Number: EKYB160ELL152MJ20S; Manufacturer: United Chemi-Con; TemperatureRange: -40C ~ 105C; Type: Polar; Ripple Current: 990mA @ 120Hz; Impedance: 37 mOhm; Value: 1500uF; PartId: 25636; Supplier 1: Digi-Key; Supplier Part Number 1: 565-3867-ND; ComponentLink1Description: Datasheet; ComponentLink1URL: http://www.chemi-con.co.jp/cgi-bin/CAT_DB/SEARCH/cat_db_al.cgi?e=e&j=p&pdfname=kyb; ComponentLink2Description: Digi-Key Listing; ComponentLink2URL: https://www.digikey.com/product-detail/en/united-chemi-con/EKYB160ELL152MJ20S/565-3867-ND/4843677; Tolerance: 20%; Voltage: 16V; Price: 0.73; Device Package: Radial, Can, 10mm
footprint CAP AL TH D10 L5 H22
pins: 1, 2

## EKYB160ELL182MJ25S
designator C?, comment 1800uF  (value not drawn)
CAP ALUM 1800UF 20% 16V RADIAL; Part Number: EKYB160ELL182MJ25S; Manufacturer: United Chemi-Con; TemperatureRange: -40C ~ 105C; Type: Polar; Ripple Current: 1.146A @ 120Hz; Impedance: 31 mOhm; Value: 1800uF; PartId: 26076; Supplier 1: Digi-Key; Supplier Part Number 1: 565-3868-ND; ComponentLink1Description: Datasheet; ComponentLink1URL: http://www.chemi-con.co.jp/cgi-bin/CAT_DB/SEARCH/cat_db_al.cgi?e=e&j=p&pdfname=kyb; ComponentLink2Description: Digi-Key Listing; ComponentLink2URL: https://www.digikey.com/product-detail/en/united-chemi-con/EKYB160ELL182MJ25S/565-3868-ND/4843678; Tolerance: 20%; Voltage: 16V; Price: 0.7; Device Package: Radial, Can, 10mm
footprint CAP AL TH D10 L5 H30
pins: 1, 2

## EKYB160ELL222MK20S
designator C?, comment 2200uF  (value not drawn)
CAP ALUM 2200UF 20% 16V RADIAL; Part Number: EKYB160ELL222MK20S; Manufacturer: United Chemi-Con; TemperatureRange: -40C ~ 105C; Type: Polar; Ripple Current: 1.6725A @ 120Hz; Impedance: 27 mOhm; Value: 2200uF; PartId: 22990; Supplier 1: Digi-Key; Supplier Part Number 1: 565-3870-ND; ComponentLink1Description: Datasheet; ComponentLink1URL: http://www.chemi-con.co.jp/cgi-bin/CAT_DB/SEARCH/cat_db_al.cgi?e=e&j=p&pdfname=kyb; ComponentLink2Description: Digi-Key Listing; ComponentLink2URL: https://www.digikey.com/product-detail/en/united-chemi-con/EKYB160ELL222MK20S/565-3870-ND/4843680; Tolerance: 20%; Voltage: 16V; Price: 0; Device Package: Radial, Can, 12.5mm
footprint CAP AL TH D12.5 L5 H21.5
pins: 1, 2

## EKYB160ELL332MK25S
designator C?, comment 3300uF  (value not drawn)
CAP ALUM 3300UF 20% 16V RADIAL; Part Number: EKYB160ELL332MK25S; Manufacturer: United Chemi-Con; TemperatureRange: -40C ~ 105C; Type: Polar; Ripple Current: 1.8975A @ 120Hz; Impedance: 24 mOhm; Value: 3300uF; PartId: 23666; Supplier 1: Digi-Key; Supplier Part Number 1: 565-3871-ND; ComponentLink1Description: Datasheet; ComponentLink1URL: http://www.chemi-con.co.jp/cgi-bin/CAT_DB/SEARCH/cat_db_al.cgi?e=e&j=p&pdfname=kyb; ComponentLink2Description: Digi-Key Listing; ComponentLink2URL: https://www.digikey.com/product-detail/en/united-chemi-con/EKYB160ELL332MK25S/565-3871-ND/4843681; Tolerance: 20%; Voltage: 16V; Price: 0.96; Device Package: Radial, Can, 12.5mm
footprint CAP AL TH D12.5 L5 H26.5
pins: 1, 2

## EKYB160ELL392MK30S
designator C?, comment 3900uF  (value not drawn)
CAP ALUM 3900UF 20% 16V RADIAL; Part Number: EKYB160ELL392MK30S; Manufacturer: United Chemi-Con; TemperatureRange: -40C ~ 105C; Type: Polar; Ripple Current: 2.145A @ 120Hz; Impedance: 21 mOhm; Value: 3900uF; PartId: 24270; Supplier 1: Digi-Key; Supplier Part Number 1: 565-3872-ND; ComponentLink1Description: Datasheet; ComponentLink1URL: http://www.chemi-con.co.jp/cgi-bin/CAT_DB/SEARCH/cat_db_al.cgi?e=e&j=p&pdfname=kyb; ComponentLink2Description: Digi-Key Listing; ComponentLink2URL: https://www.digikey.com/product-detail/en/united-chemi-con/EKYB160ELL392MK30S/565-3872-ND/4843682; Tolerance: 20%; Voltage: 16V; Price: 1.06; Device Package: Radial, Can, 12.5mm
footprint CAP AL TH D12.5 L5 H35.5
pins: 1, 2

## EKYB160ELL392ML20S
designator C?, comment 3900uF  (value not drawn)
CAP ALUM 3900UF 20% 16V RADIAL; Part Number: EKYB160ELL392ML20S; Manufacturer: United Chemi-Con; TemperatureRange: -40C ~ 105C; Type: Polar; Ripple Current: 1.9575A @ 120Hz; Impedance: 25 mOhm; Value: 3900uF; PartId: 26425; Supplier 1: Digi-Key; Supplier Part Number 1: 565-3873-ND; ComponentLink1Description: Datasheet; ComponentLink1URL: http://www.chemi-con.co.jp/cgi-bin/CAT_DB/SEARCH/cat_db_al.cgi?e=e&j=p&pdfname=kyb; ComponentLink2Description: Digi-Key Listing; ComponentLink2URL: https://www.digikey.com/product-detail/en/united-chemi-con/EKYB160ELL392ML20S/565-3873-ND/4843683; Tolerance: 20%; Voltage: 16V; Price: 1.27; Device Package: Radial, Can, 16mm
footprint CAP AL TH D16 L7.5 H22
pins: 1, 2

## EKYB160ELL562ML25S
designator C?, comment 5600uF  (value not drawn)
CAP ALUM 5600UF 20% 16V RADIAL; Part Number: EKYB160ELL562ML25S; Manufacturer: United Chemi-Con; TemperatureRange: -40C ~ 105C; Type: Polar; Ripple Current: 2.669A @ 120Hz; Impedance: 20 mOhm; Value: 5600uF; PartId: 26651; Supplier 1: Digi-Key; Supplier Part Number 1: 565-3877-ND; ComponentLink1Description: Datasheet; ComponentLink1URL: http://www.chemi-con.co.jp/cgi-bin/CAT_DB/SEARCH/cat_db_al.cgi?e=e&j=p&pdfname=kyb; ComponentLink2Description: Digi-Key Listing; ComponentLink2URL: https://www.digikey.com/product-detail/en/united-chemi-con/EKYB160ELL562ML25S/565-3877-ND/4843687; Tolerance: 20%; Voltage: 16V; Price: 1.55; Device Package: Radial, Can, 16mm
footprint CAP AL TH D16 L7.5 H26.5
pins: 1, 2

## EKYB160ELL682MLN3S
designator C?, comment 6800uF  (value not drawn)
CAP ALUM 6800UF 20% 16V RADIAL; Part Number: EKYB160ELL682MLN3S; Manufacturer: United Chemi-Con; TemperatureRange: -40C ~ 105C; Type: Polar; Ripple Current: 3.0685A @ 120Hz; Impedance: 16 mOhm; Value: 6800uF; PartId: 27162; Supplier 1: Digi-Key; Supplier Part Number 1: 565-3878-ND; ComponentLink1Description: Datasheet; ComponentLink1URL: http://www.chemi-con.co.jp/cgi-bin/CAT_DB/SEARCH/cat_db_al.cgi?e=e&j=p&pdfname=kyb; ComponentLink2Description: Digi-Key Listing; ComponentLink2URL: https://www.digikey.com/product-detail/en/united-chemi-con/EKYB160ELL682MLN3S/565-3878-ND/4843688; Tolerance: 20%; Voltage: 16V; Price: 1.87; Device Package: Radial, Can, 16mm
footprint CAP AL TH D16 L7.5 H33.5
pins: 1, 2

## EKYB160ELL822MLP1S
designator C?, comment 8200uF  (value not drawn)
CAP ALUM 8200UF 20% 16V RADIAL; Part Number: EKYB160ELL822MLP1S; Manufacturer: United Chemi-Con; TemperatureRange: -40C ~ 105C; Type: Polar; Ripple Current: 3.468A @ 120Hz; Impedance: 14 mOhm; Value: 8200uF; PartId: 27372; Supplier 1: Digi-Key; Supplier Part Number 1: 565-3880-ND; ComponentLink1Description: Datasheet; ComponentLink1URL: http://www.chemi-con.co.jp/cgi-bin/CAT_DB/SEARCH/cat_db_al.cgi?e=e&j=p&pdfname=kyb; ComponentLink2Description: Digi-Key Listing; ComponentLink2URL: https://www.digikey.com/product-detail/en/united-chemi-con/EKYB160ELL822MLP1S/565-3880-ND/4843690; Tolerance: 20%; Voltage: 16V; Price: 1.81; Device Package: Radial, Can, 16mm
footprint CAP AL TH D16 L7.5 H37
pins: 1, 2

## EKYB250ELL102MJ20S
designator C?, comment 1000uF  (value not drawn)
CAP ALUM 1000UF 20% 25V RADIAL; Part Number: EKYB250ELL102MJ20S; Manufacturer: United Chemi-Con; TemperatureRange: -40C ~ 105C; Type: Polar; Ripple Current: 990mA @ 120Hz; Impedance: 37 mOhm; Value: 1000uF; PartId: 25575; Supplier 1: Digi-Key; Supplier Part Number 1: 565-3892-ND; ComponentLink1Description: Datasheet; ComponentLink1URL: http://www.chemi-con.co.jp/cgi-bin/CAT_DB/SEARCH/cat_db_al.cgi?e=e&j=p&pdfname=kyb; ComponentLink2Description: Digi-Key Listing; ComponentLink2URL: https://www.digikey.com/product-detail/en/united-chemi-con/EKYB250ELL102MJ20S/565-3892-ND/4843702; Tolerance: 20%; Voltage: 25V; Price: 0.66; Device Package: Radial, Can, 10mm
footprint CAP AL TH D10 L5 H22
pins: 1, 2

## EKYB250ELL122MJ25S
designator C?, comment 1200uF  (value not drawn)
CAP ALUM 1200UF 20% 25V RADIAL; Part Number: EKYB250ELL122MJ25S; Manufacturer: United Chemi-Con; TemperatureRange: -40C ~ 105C; Type: Polar; Ripple Current: 1.146A @ 120Hz; Impedance: 31 mOhm; Value: 1200uF; PartId: 26075; Supplier 1: Digi-Key; Supplier Part Number 1: 565-3893-ND; ComponentLink1Description: Datasheet; ComponentLink1URL: http://www.chemi-con.co.jp/cgi-bin/CAT_DB/SEARCH/cat_db_al.cgi?e=e&j=p&pdfname=kyb; ComponentLink2Description: Digi-Key Listing; ComponentLink2URL: https://www.digikey.com/product-detail/en/united-chemi-con/EKYB250ELL122MJ25S/565-3893-ND/4843703; Tolerance: 20%; Voltage: 25V; Price: 0.7; Device Package: Radial, Can, 10mm
footprint CAP AL TH D10 L5 H30
pins: 1, 2

## EKYB250ELL152MK20S
designator C?, comment 1500uF  (value not drawn)
CAP ALUM 1500UF 20% 25V RADIAL; Part Number: EKYB250ELL152MK20S; Manufacturer: United Chemi-Con; TemperatureRange: -40C ~ 105C; Type: Polar; Ripple Current: 1.338A @ 120Hz; Impedance: 27 mOhm; Value: 1500uF; PartId: 22979; Supplier 1: Digi-Key; Supplier Part Number 1: 565-3895-ND; ComponentLink1Description: Datasheet; ComponentLink1URL: http://www.chemi-con.co.jp/cgi-bin/CAT_DB/SEARCH/cat_db_al.cgi?e=e&j=p&pdfname=kyb; ComponentLink2Description: Digi-Key Listing; ComponentLink2URL: https://www.digikey.com/product-detail/en/united-chemi-con/EKYB250ELL152MK20S/565-3895-ND/4843705; Tolerance: 20%; Voltage: 25V; Price: 0; Device Package: Radial, Can, 12.5mm
footprint CAP AL TH D12.5 L5 H21.5
pins: 1, 2

## EKYB250ELL272MK30S
designator C?, comment 2700uF  (value not drawn)
CAP ALUM 2700UF 20% 25V RADIAL; Part Number: EKYB250ELL272MK30S; Manufacturer: United Chemi-Con; TemperatureRange: -40C ~ 105C; Type: Polar; Ripple Current: 2.145A @ 120Hz; Impedance: 21 mOhm; Value: 2700uF; PartId: 24253; Supplier 1: Digi-Key; Supplier Part Number 1: 565-3897-ND; ComponentLink1Description: Datasheet; ComponentLink1URL: http://www.chemi-con.co.jp/cgi-bin/CAT_DB/SEARCH/cat_db_al.cgi?e=e&j=p&pdfname=kyb; ComponentLink2Description: Digi-Key Listing; ComponentLink2URL: https://www.digikey.com/product-detail/en/united-chemi-con/EKYB250ELL272MK30S/565-3897-ND/4843707; Tolerance: 20%; Voltage: 25V; Price: 1.03; Device Package: Radial, Can, 12.5mm
footprint CAP AL TH D12.5 L5 H35.5
pins: 1, 2

## EKYB250ELL272ML20S
designator C?, comment 2700uF  (value not drawn)
CAP ALUM 2700UF 20% 25V RADIAL; Part Number: EKYB250ELL272ML20S; Manufacturer: United Chemi-Con; TemperatureRange: -40C ~ 105C; Type: Polar; Ripple Current: 1.9575A @ 120Hz; Impedance: 25 mOhm; Value: 2700uF; PartId: 26423; Supplier 1: Digi-Key; Supplier Part Number 1: 565-3898-ND; ComponentLink1Description: Datasheet; ComponentLink1URL: http://www.chemi-con.co.jp/cgi-bin/CAT_DB/SEARCH/cat_db_al.cgi?e=e&j=p&pdfname=kyb; ComponentLink2Description: Digi-Key Listing; ComponentLink2URL: https://www.digikey.com/product-detail/en/united-chemi-con/EKYB250ELL272ML20S/565-3898-ND/4843708; Tolerance: 20%; Voltage: 25V; Price: 1.25; Device Package: Radial, Can, 16mm
footprint CAP AL TH D16 L7.5 H22
pins: 1, 2

## EKYB250ELL392ML25S
designator C?, comment 3900uF  (value not drawn)
CAP ALUM 3900UF 20% 25V RADIAL; Part Number: EKYB250ELL392ML25S; Manufacturer: United Chemi-Con; TemperatureRange: -40C ~ 105C; Type: Polar; Ripple Current: 2.355A @ 120Hz; Impedance: 20 mOhm; Value: 3900uF; PartId: 26642; Supplier 1: Digi-Key; Supplier Part Number 1: 565-3902-ND; ComponentLink1Description: Datasheet; ComponentLink1URL: http://www.chemi-con.co.jp/cgi-bin/CAT_DB/SEARCH/cat_db_al.cgi?e=e&j=p&pdfname=kyb; ComponentLink2Description: Digi-Key Listing; ComponentLink2URL: https://www.digikey.com/product-detail/en/united-chemi-con/EKYB250ELL392ML25S/565-3902-ND/4843712; Tolerance: 20%; Voltage: 25V; Price: 1.52; Device Package: Radial, Can, 16mm
footprint CAP AL TH D16 L7.5 H26.5
pins: 1, 2

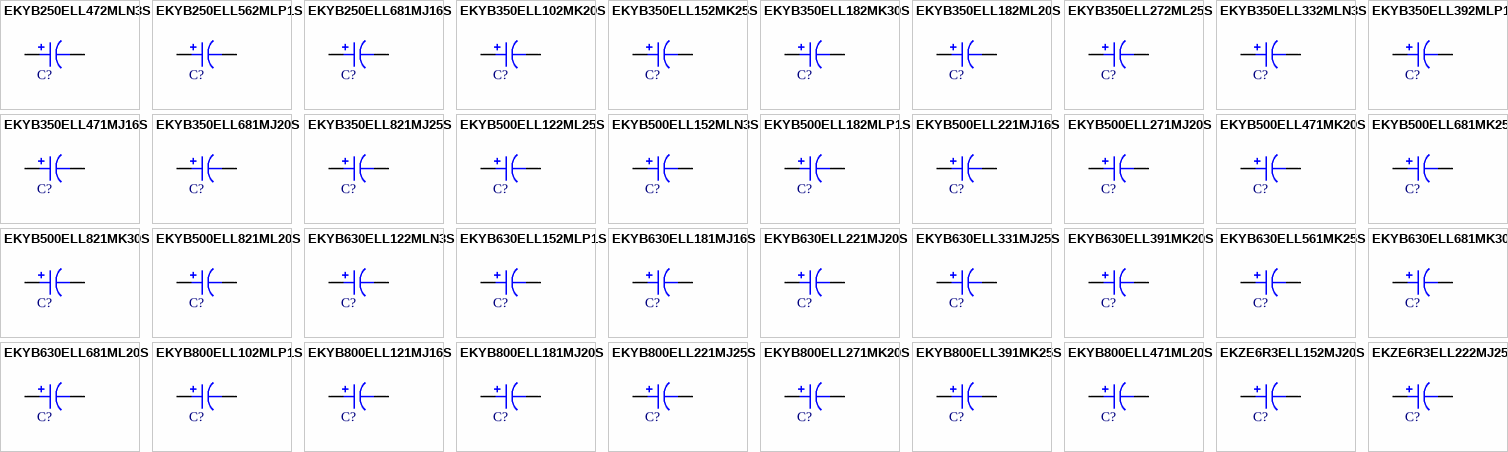
[diagram p46: symbols EKYB250ELL472MLN3S to EKZE6R3ELL222MJ25S]

## EKYB250ELL472MLN3S
designator C?, comment 4700uF  (value not drawn)
CAP ALUM 4700UF 20% 25V RADIAL; Part Number: EKYB250ELL472MLN3S; Manufacturer: United Chemi-Con; TemperatureRange: -40C ~ 105C; Type: Polar; Ripple Current: 3.0685A @ 120Hz; Impedance: 16 mOhm; Value: 4700uF; PartId: 27147; Supplier 1: Digi-Key; Supplier Part Number 1: 565-3903-ND; ComponentLink1Description: Datasheet; ComponentLink1URL: http://www.chemi-con.co.jp/cgi-bin/CAT_DB/SEARCH/cat_db_al.cgi?e=e&j=p&pdfname=kyb; ComponentLink2Description: Digi-Key Listing; ComponentLink2URL: https://www.digikey.com/product-detail/en/united-chemi-con/EKYB250ELL472MLN3S/565-3903-ND/4843713; Tolerance: 20%; Voltage: 25V; Price: 1.83; Device Package: Radial, Can, 16mm
footprint CAP AL TH D16 L7.5 H33.5
pins: 1, 2

## EKYB250ELL562MLP1S
designator C?, comment 5600uF  (value not drawn)
CAP ALUM 5600UF 20% 25V RADIAL; Part Number: EKYB250ELL562MLP1S; Manufacturer: United Chemi-Con; TemperatureRange: -40C ~ 105C; Type: Polar; Ripple Current: 3.468A @ 120Hz; Impedance: 14 mOhm; Value: 5600uF; PartId: 27382; Supplier 1: Digi-Key; Supplier Part Number 1: 565-3905-ND; ComponentLink1Description: Datasheet; ComponentLink1URL: http://www.chemi-con.co.jp/cgi-bin/CAT_DB/SEARCH/cat_db_al.cgi?e=e&j=p&pdfname=kyb; ComponentLink2Description: Digi-Key Listing; ComponentLink2URL: https://www.digikey.com/product-detail/en/united-chemi-con/EKYB250ELL562MLP1S/565-3905-ND/4843715; Tolerance: 20%; Voltage: 25V; Price: 1.84; Device Package: Radial, Can, 16mm
footprint CAP AL TH D16 L7.5 H37
pins: 1, 2

## EKYB250ELL681MJ16S
designator C?, comment 680uF  (value not drawn)
CAP ALUM 680UF 20% 25V RADIAL; Part Number: EKYB250ELL681MJ16S; Manufacturer: United Chemi-Con; TemperatureRange: -40C ~ 105C; Type: Polar; Ripple Current: 840mA @ 120Hz; Impedance: 49 mOhm; Value: 680uF; PartId: 25366; Supplier 1: Digi-Key; Supplier Part Number 1: 565-3891-ND; ComponentLink1Description: Datasheet; ComponentLink1URL: http://www.chemi-con.co.jp/cgi-bin/CAT_DB/SEARCH/cat_db_al.cgi?e=e&j=p&pdfname=kyb; ComponentLink2Description: Digi-Key Listing; ComponentLink2URL: https://www.digikey.com/product-detail/en/united-chemi-con/EKYB250ELL681MJ16S/565-3891-ND/4843701; Tolerance: 20%; Voltage: 25V; Price: 0.72; Device Package: Radial, Can, 10mm
footprint CAP AL TH D10 L5 H17.5
pins: 1, 2

## EKYB350ELL102MK20S
designator C?, comment 1000uF  (value not drawn)
CAP ALUM 1000UF 20% 35V RADIAL; Part Number: EKYB350ELL102MK20S; Manufacturer: United Chemi-Con; TemperatureRange: -40C ~ 105C; Type: Polar; Ripple Current: 1.338A @ 120Hz; Impedance: 27 mOhm; Value: 1000uF; PartId: 23009; Supplier 1: Digi-Key; Supplier Part Number 1: 565-3919-ND; ComponentLink1Description: Datasheet; ComponentLink1URL: http://www.chemi-con.co.jp/cgi-bin/CAT_DB/SEARCH/cat_db_al.cgi?e=e&j=p&pdfname=kyb; ComponentLink2Description: Digi-Key Listing; ComponentLink2URL: https://www.digikey.com/product-detail/en/united-chemi-con/EKYB350ELL102MK20S/565-3919-ND/4843729; Tolerance: 20%; Voltage: 35V; Price: 0; Device Package: Radial, Can, 12.5mm
footprint CAP AL TH D12.5 L5 H21.5
pins: 1, 2

## EKYB350ELL152MK25S
designator C?, comment 1500uF  (value not drawn)
CAP ALUM 1500UF 20% 35V RADIAL; Part Number: EKYB350ELL152MK25S; Manufacturer: United Chemi-Con; TemperatureRange: -40C ~ 105C; Type: Polar; Ripple Current: 1.518A @ 120Hz; Impedance: 24 mOhm; Value: 1500uF; PartId: 23703; Supplier 1: Digi-Key; Supplier Part Number 1: 565-3920-ND; ComponentLink1Description: Datasheet; ComponentLink1URL: http://www.chemi-con.co.jp/cgi-bin/CAT_DB/SEARCH/cat_db_al.cgi?e=e&j=p&pdfname=kyb; ComponentLink2Description: Digi-Key Listing; ComponentLink2URL: https://www.digikey.com/product-detail/en/united-chemi-con/EKYB350ELL152MK25S/565-3920-ND/4843730; Tolerance: 20%; Voltage: 35V; Price: 1.12; Device Package: Radial, Can, 12.5mm
footprint CAP AL TH D12.5 L5 H26.5
pins: 1, 2

## EKYB350ELL182MK30S
designator C?, comment 1800uF  (value not drawn)
CAP ALUM 1800UF 20% 35V RADIAL; Part Number: EKYB350ELL182MK30S; Manufacturer: United Chemi-Con; TemperatureRange: -40C ~ 105C; Type: Polar; Ripple Current: 1.716A @ 120Hz; Impedance: 21 mOhm; Value: 1800uF; PartId: 24279; Supplier 1: Digi-Key; Supplier Part Number 1: 565-3921-ND; ComponentLink1Description: Datasheet; ComponentLink1URL: http://www.chemi-con.co.jp/cgi-bin/CAT_DB/SEARCH/cat_db_al.cgi?e=e&j=p&pdfname=kyb; ComponentLink2Description: Digi-Key Listing; ComponentLink2URL: https://www.digikey.com/product-detail/en/united-chemi-con/EKYB350ELL182MK30S/565-3921-ND/4843731; Tolerance: 20%; Voltage: 35V; Price: 1.09; Device Package: Radial, Can, 12.5mm
footprint CAP AL TH D12.5 L5 H35.5
pins: 1, 2

## EKYB350ELL182ML20S
designator C?, comment 1800uF  (value not drawn)
CAP ALUM 1800UF 20% 35V RADIAL; Part Number: EKYB350ELL182ML20S; Manufacturer: United Chemi-Con; TemperatureRange: -40C ~ 105C; Type: Polar; Ripple Current: 1.566A @ 120Hz; Impedance: 25 mOhm; Value: 1800uF; PartId: 26428; Supplier 1: Digi-Key; Supplier Part Number 1: 565-3922-ND; ComponentLink1Description: Datasheet; ComponentLink1URL: http://www.chemi-con.co.jp/cgi-bin/CAT_DB/SEARCH/cat_db_al.cgi?e=e&j=p&pdfname=kyb; ComponentLink2Description: Digi-Key Listing; ComponentLink2URL: https://www.digikey.com/product-detail/en/united-chemi-con/EKYB350ELL182ML20S/565-3922-ND/4843732; Tolerance: 20%; Voltage: 35V; Price: 1.31; Device Package: Radial, Can, 16mm
footprint CAP AL TH D16 L7.5 H22
pins: 1, 2

## EKYB350ELL272ML25S
designator C?, comment 2700uF  (value not drawn)
CAP ALUM 2700UF 20% 35V RADIAL; Part Number: EKYB350ELL272ML25S; Manufacturer: United Chemi-Con; TemperatureRange: -40C ~ 105C; Type: Polar; Ripple Current: 2.355A @ 120Hz; Impedance: 20 mOhm; Value: 2700uF; PartId: 26695; Supplier 1: Digi-Key; Supplier Part Number 1: 565-3926-ND; ComponentLink1Description: Datasheet; ComponentLink1URL: http://www.chemi-con.co.jp/cgi-bin/CAT_DB/SEARCH/cat_db_al.cgi?e=e&j=p&pdfname=kyb; ComponentLink2Description: Digi-Key Listing; ComponentLink2URL: https://www.digikey.com/product-detail/en/united-chemi-con/EKYB350ELL272ML25S/565-3926-ND/4843736; Tolerance: 20%; Voltage: 35V; Price: 1.89; Device Package: Radial, Can, 16mm
footprint CAP AL TH D16 L7.5 H26.5
pins: 1, 2

## EKYB350ELL332MLN3S
designator C?, comment 3300uF  (value not drawn)
CAP ALUM 3300UF 20% 35V RADIAL; Part Number: EKYB350ELL332MLN3S; Manufacturer: United Chemi-Con; TemperatureRange: -40C ~ 105C; Type: Polar; Ripple Current: 2.7075A @ 120Hz; Impedance: 16 mOhm; Value: 3300uF; PartId: 27107; Supplier 1: Digi-Key; Supplier Part Number 1: 565-3927-ND; ComponentLink1Description: Datasheet; ComponentLink1URL: http://www.chemi-con.co.jp/cgi-bin/CAT_DB/SEARCH/cat_db_al.cgi?e=e&j=p&pdfname=kyb; ComponentLink2Description: Digi-Key Listing; ComponentLink2URL: https://www.digikey.com/product-detail/en/united-chemi-con/EKYB350ELL332MLN3S/565-3927-ND/4843737; Tolerance: 20%; Voltage: 35V; Price: 1.75; Device Package: Radial, Can, 16mm
footprint CAP AL TH D16 L7.5 H33.5
pins: 1, 2